# Altium footprint library 电源母板.PcbLib: 15 footprints
Each footprint in its own frame and in the unit in brackets; x right, y up, seen from the top. Pads: shape width x height; smd on the part's side, far side on the other; paste and mask are expansions set on the pad; w line width, h text height; cw(c..) or ccw(c..) is an arc to the next point about the centre after c.
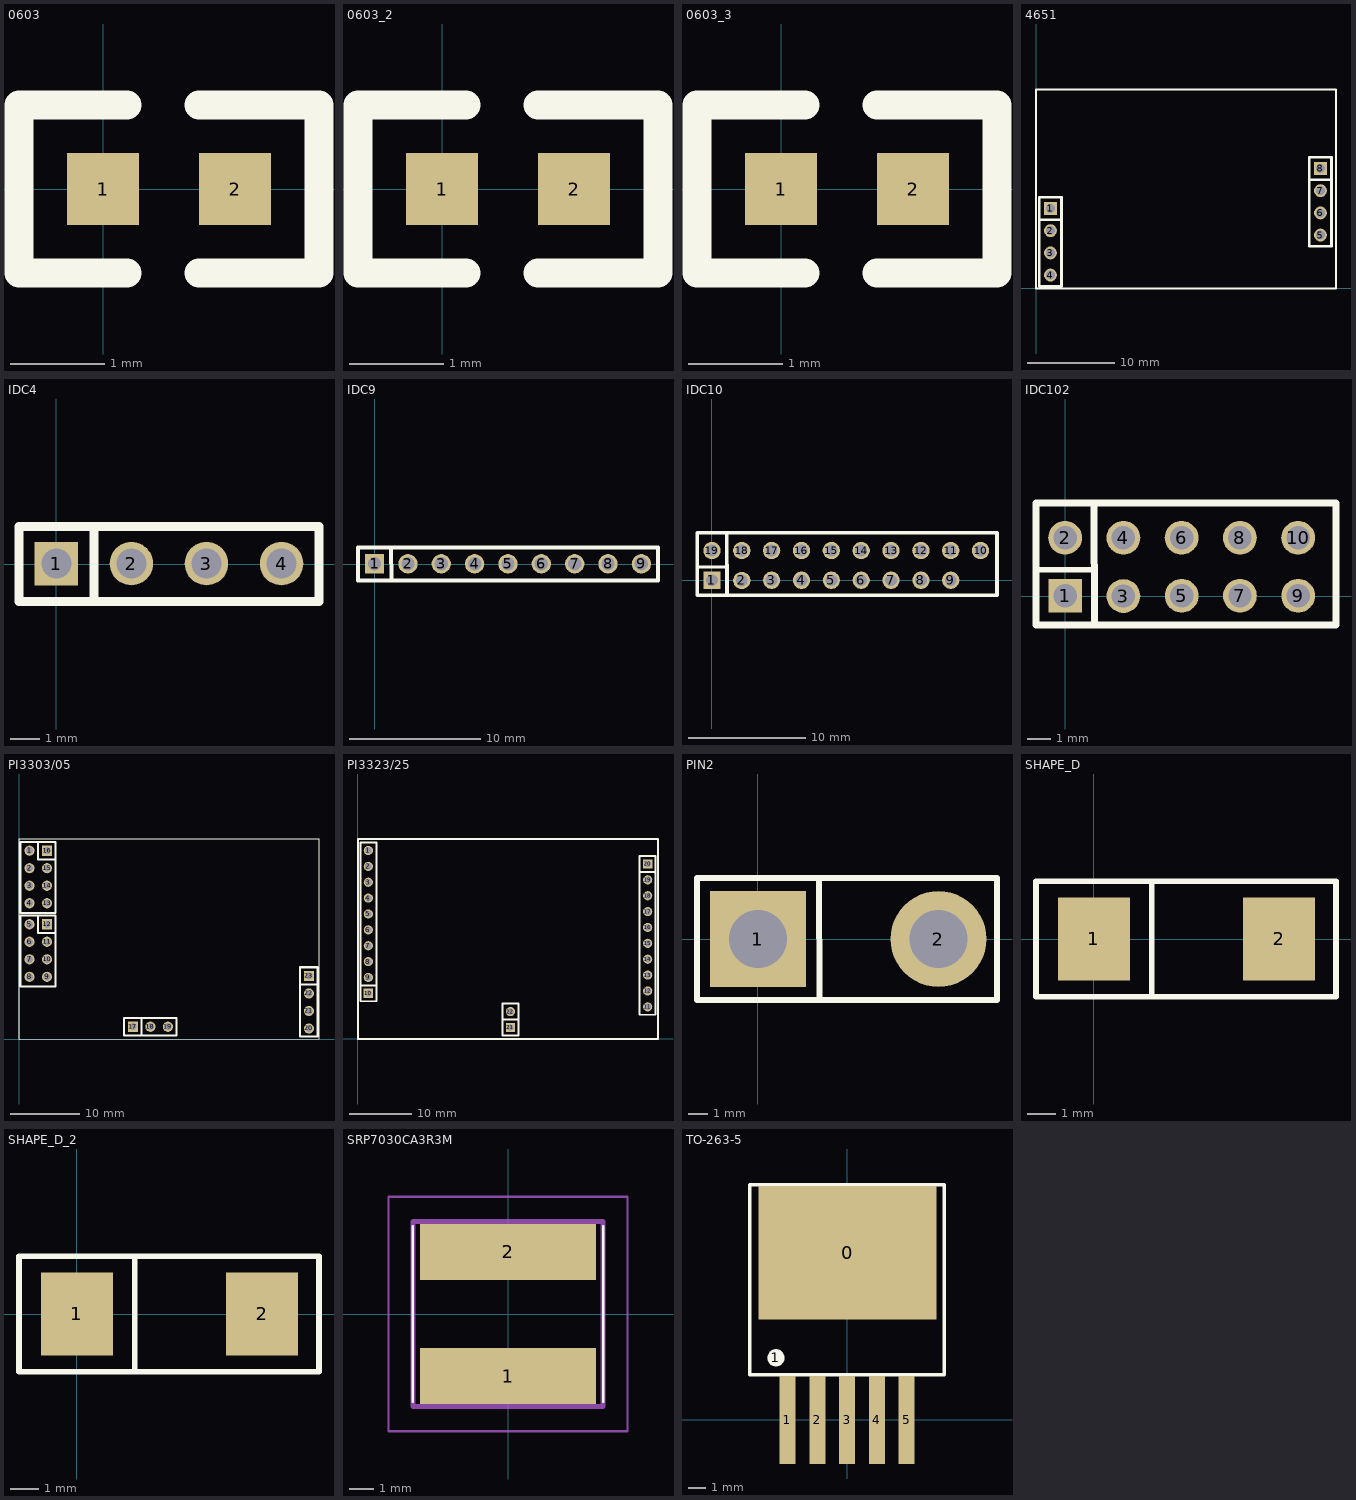
[diagram p0: the footprints below, top view; thin cyan lines are the x and y axes]

## 0603 [mil]
height 184.65
pads (2):
  rect 30x30 smd: 1(0,0) 2(55,0)
Top Overlay:
  lines w12: 10,-35 -35,-35 -35,35 10,35 ; 40,-35 90,-35 90,35 40,35

## 0603_2 [mil]
pads (2):
  rect 30x30 smd: 1(0,0) 2(55,0)
Top Overlay:
  lines w12: 10,-35 -35,-35 -35,35 10,35 ; 40,-35 90,-35 90,35 40,35

## 0603_3 [mil]
pads (2):
  rect 30x30 smd: 1(0,0) 2(55,0)
Top Overlay:
  lines w12: 10,-35 -35,-35 -35,35 10,35 ; 40,-35 90,-35 90,35 40,35

## 4651 [mil] "BGA110"
height 47.24
pads (8):
  rect 58x58 hole 40: 1(65,360) 8(1280,540)
  round 58 hole 40: 2(65,260) 3(65,160) 4(65,60) 5(1280,240) 6(1280,340) 7(1280,440)
Top Overlay:
  lines w10: 0,0 0,895 1350,895 1350,0 0,0
  lines w12: 14.48,309.7 114.48,310.1 ; 1229.48,489.7 1329.48,490.1 ; 14.48,10.1 14.48,409.7 114.48,409.7 114.48,10.1 14.48,10.1 ; 1229.48,190.1 1329.48,190.1 1329.48,589.7 1229.48,589.7 1229.48,190.1

## IDC4 [mil]
height 49.21
pads (4):
  rect 58x58 hole 40: 1(0.1,0.52)
  round 58 hole 40: 2(100.1,0.52) 3(200.1,0.52) 4(300.1,0.52)
Top Overlay:
  lines w12: 50,50 50.4,-50 ; -49.6,-50 -49.6,50 350,50 350,-50 -49.6,-50

## IDC9 [mil]
height 49.21
pads (9):
  rect 58x58 hole 40: 1(0.1,0.52)
  round 58 hole 40: 2(100.1,0.52) 3(200.1,0.52) 4(300.1,0.52) 5(400.1,0.52) 6(500.1,0.52) 7(600.1,0.52) 8(700.1,0.52) 9(800.1,0.52)
Top Overlay:
  lines w12: 50,50 50.4,-50 ; -49.6,-50 -49.6,50 850,50 850,-50 -49.6,-50

## IDC10 [mil]
height 49.21
pads (19):
  rect 58x58 hole 40: 1(0.1,0.52)
  round 58 hole 40: 2(100,0) 3(200.1,0.52) 4(300.1,0.52) 5(400.1,0.52) 6(500.1,0.52) 7(600.1,0.52) 8(700.1,0.52) 9(800.1,0.52) 10(900,100) 11(800,100) 12(700,100) 13(600,100) 14(500,100) 15(400,100) 16(300,100) 17(200,100) 18(100,100) 19(0,100)
Top Overlay:
  lines w10: -50,45 50,45
  lines w12: 49.56,160 50.4,-50 ; -49.6,-50 955,-50 955,160 -49.6,160 -49.6,-50

## IDC102 [mil]
height 49.21
pads (10):
  rect 58x58 hole 40: 1(0.1,0.52)
  round 58 hole 40: 2(0,100) 3(100,0) 4(100,100) 5(200.1,0.52) 6(200,100) 7(300.1,0.52) 8(300,100) 9(400.1,0.52) 10(400,100)
Top Overlay:
  lines w10: -50,45 50,45
  lines w12: 49.56,160 50.4,-50 ; -49.6,-50 -49.6,160 465,160 465,-50 -49.6,-50

## PI3303/05 [mil] "BGA110"
height 47.24
pads (23):
  round 58 hole 40: 1(60,1075) 2(60,975) 3(60,875) 4(60,775) 5(60,655) 6(60,555) 7(60,455) 8(60,355) 9(160,355) 10(160,455) 11(160,555) 13(160,775) 14(160,875) 15(160,975) 18(750,70) 19(850,70) 20(1655,60) 21(1655,160) 22(1655,260)
  rect 58x58 hole 40: 12(160,655) 16(160,1075) 17(650,70) 23(1655,360)
Top Overlay:
  lines w3.94: 0,0 1712.6,0 1712.6,1141.73 0,1141.73 0,0
  lines w12: 109.08,704.7 109.48,604.7 209.48,605.1 ; 109.08,1124.7 109.48,1024.7 209.48,1025.1 ; 699.9,119.48 700.3,19.48 ; 1604.48,309.7 1704.48,310.1 ; 9.48,300.1 9.48,704.7 209.48,704.7 209.48,300.1 9.48,300.1 ; 9.48,720.1 9.48,1124.7 209.48,1124.7 209.48,720.1 9.48,720.1 ; 600.3,19.48 600.3,119.48 899.9,119.48 899.9,19.48 600.3,19.48 ; 1604.48,15.1 1604.48,409.7 1704.48,409.7 1704.48,15.1 1604.48,15.1

## PI3323/25 [mil] "BGA110"
height 47.24
pads (22):
  round 58 hole 40: 1(65,1187.56) 2(65,1087.56) 3(65,987.56) 4(65,887.56) 5(65,787.56) 6(65,687.56) 7(65,587.56) 8(65,487.56) 9(65,387.56) 11(1825,202.56) 12(1825,302.56) 13(1825,402.56) 14(1825,502.56) 15(1825,602.56) 16(1825,702.56) 17(1825,802.56) 18(1825,902.56) 19(1825,1002.56) 22(960,172.56)
  rect 58x58 hole 40: 10(65,287.56) 20(1825,1102.56) 21(960,72.56)
Top Overlay:
  lines w10: 0,1259.84 0,0 1890,0 1890,1259.84 0,1259.84 ; 0,1259.84 0,1259.84
  lines w12: 15.52,337.46 115.52,337.86 ; 910.52,122.46 1010.52,122.86 ; 1774.48,1052.26 1874.48,1052.66 ; 15.52,237.86 15.52,1237.46 115.52,1237.46 115.52,237.86 15.52,237.86 ; 910.52,22.86 910.52,222.46 1010.52,222.46 1010.52,22.86 910.52,22.86 ; 1774.48,152.66 1874.48,152.66 1874.48,1152.26 1774.48,1152.26 1774.48,152.66

## PIN2 [mm]
height 1.25
pads (2):
  rect 5x5 hole 3: 1(0,0)
  round 5 hole 3: 2(9.398,0)
Top Overlay:
  lines w0.305: 3.175,3.175 3.2,-3.175 ; -3.175,-3.175 -3.175,3.175 12.446,3.175 12.446,-3.175 -3.175,-3.175

## SHAPE_D [mil]
height 47.24
pads (2):
  rect 100x115 smd: 1(0.17,0.2) 2(256.17,0.2)
Top Overlay:
  lines w8: 80,-80 80,80 ; -80,-80 335,-80 335,80 -80,80 -80,-80

## SHAPE_D_2 [mil]
pads (2):
  rect 100x115 smd: 1(0.17,0.2) 2(256.17,0.2)
Top Overlay:
  lines w8: 80,-80 80,80 ; -80,-80 335,-80 335,80 -80,80 -80,-80

## SRP7030CA3R3M [mm]
height 1.25
pads (2):
  rect 7.2x2.3 smd: 1(0,-2.55) 2(0,2.55)
Top Overlay:
  lines w0.1: -3.9,-3.6 -3.9,3.6 ; 3.9,-3.6 3.9,3.6
Mechanical 13:
  lines w0.2: -3.9,-3.8 -3.9,3.8 3.9,3.8 3.9,-3.8 -3.9,-3.8
Mechanical 15:
  lines w0.1: -4.9,-4.8 -4.9,4.8 4.9,4.8 4.9,-4.8 -4.9,-4.8
3D body "SRP7030CA-3R3M.stp": height 3.02, standoff 0.03, extent -3.9,-3.8 3.9,3.8

## TO-263-5 [mm]
pads (7):
  rect 10.16x7.62 smd: 0(0.025,9.55)
  round 1 on Top Overlay: 1(-4.064,3.556)
  rect 0.914x5.03 smd: 1(-3.41,0) 2(-1.7,0) 3(0,0) 4(1.7,0) 5(3.4,0)
Top Overlay:
  lines w0.2: -5.563,2.6 -5.563,13.445 5.563,13.445 5.563,2.6 -5.563,2.6